# Altium schematic symbol library Orion Sleep - Control Board - Rev 2.SCHLIB: 156 symbols (part 1 of 3)
Pins are listed as number, name and electrical type; pins without a type are passive.

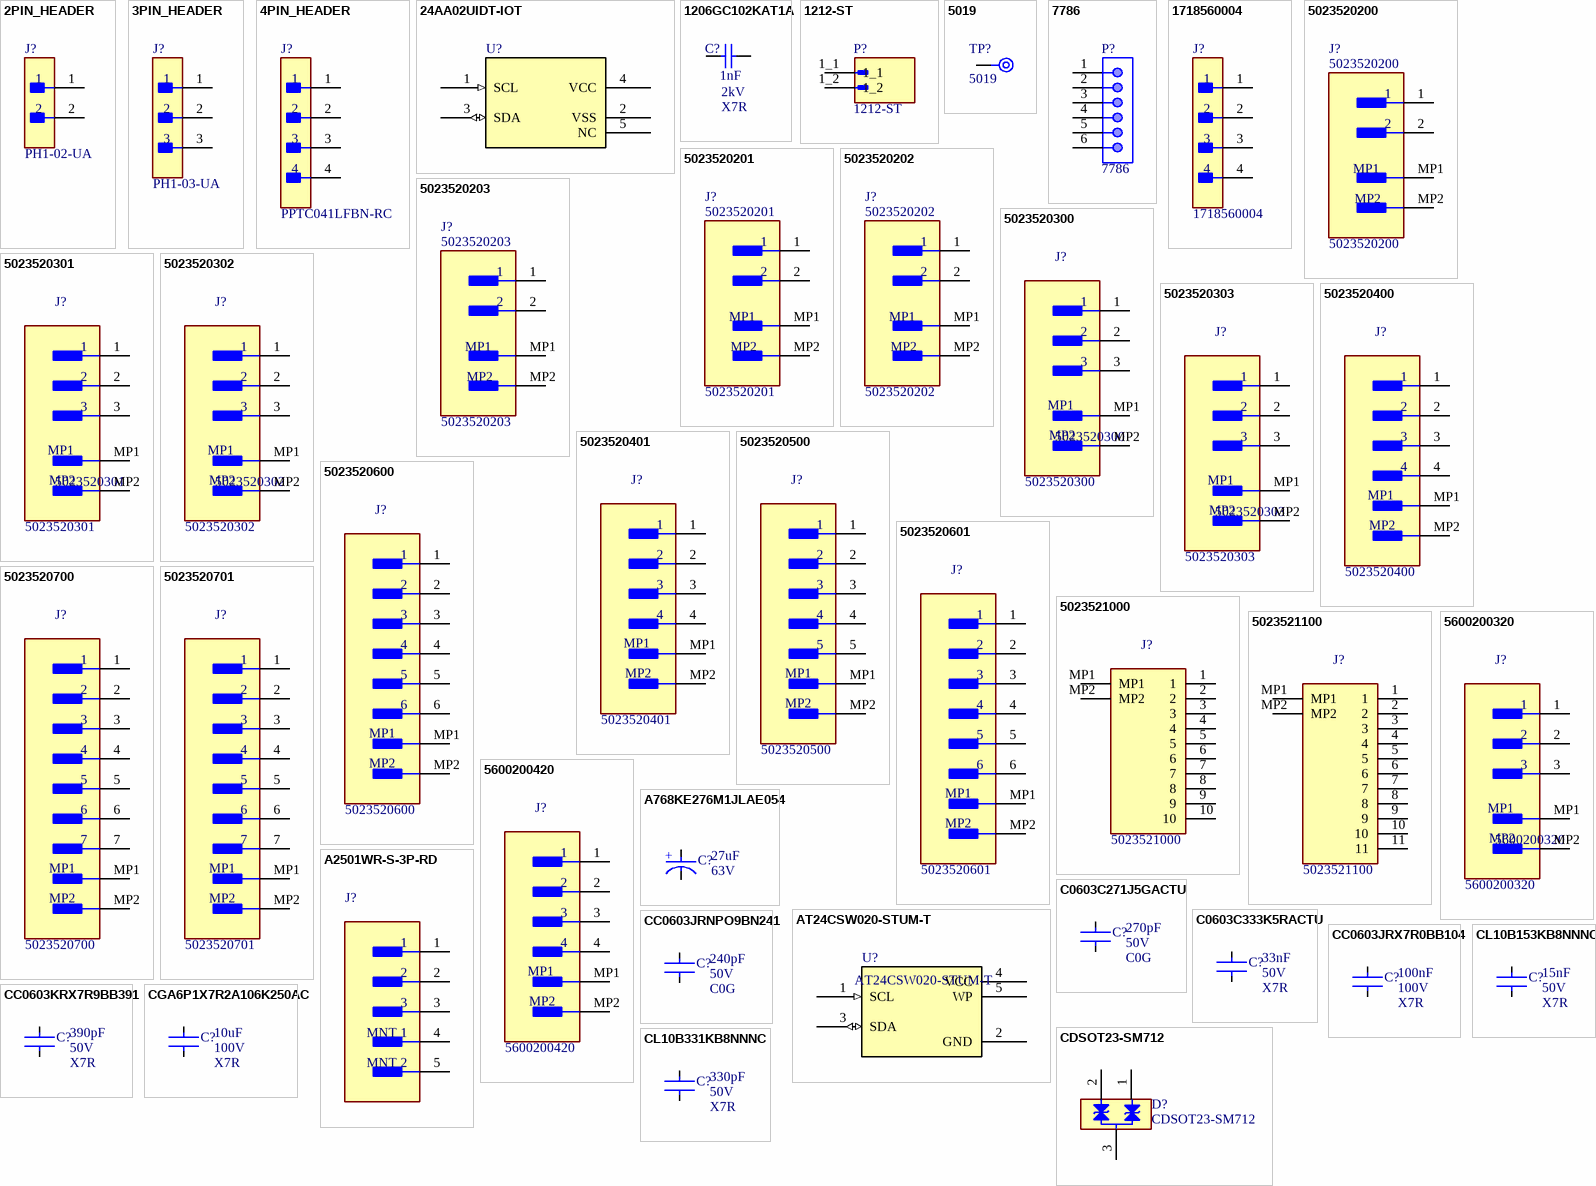
[diagram p0: symbols 2PIN_HEADER to CL10B331KB8NNNC]

## 2PIN_HEADER
designator J?  Manufacturer Part Number 1: PH1-02-UA
CONN HEADER VERT 2POS 2.54MM; Manufacturer 1: Adam Tech; Supplier 1: Digikey; Supplier Part Number 1: 2057-PH1-02-UA-ND
footprint CONN_PH1-02-UA_ADM (CONN HEADER VERT 2POS 2.54MM)
pins: 1, 2

## 3PIN_HEADER
designator J?  Manufacturer Part Number 1: PH1-03-UA
CONN HEADER VERT 3POS 2.54MM; Manufacturer 1: Adam Tech; Supplier 1: Digikey; Supplier Part Number 1: 2057-PH1-03-UA-ND
footprint CONN_PH1-03-UA_ADM (CONN HEADER VERT 3POS 2.54MM)
pins: 1, 2, 3

## 4PIN_HEADER
designator J?  Manufacturer Part Number 1: PPTC041LFBN-RC
CONN HDR 4POS 0.1 TIN PCB 2.54MM FEMALE; Manufacturer 1: Sullins Connector Solutions; Supplier 1: Digikey; Supplier Part Number 1: S7002-ND
footprint SULLINS_PPTC041LFBN-RC
pins: 1, 2, 3, 4

## 24AA02UIDT-IOT
designator U?
IC EEPROM 2KBIT I2C SOT23-5; Manufacturer 1: Microchip Technology; Manufacturer Part Number 1: 24AA02UIDT-I/OT; Supplier 1: Digikey; Supplier Part Number 1: 24AA02UIDT-I/OTCT-ND
footprint SOT-23-5_MC_MCH (5-Lead Plastic Small Outline Transistor (OT) [SOT-23] MICROCHIP)
pins: 1 SCL (in), 2 VSS (power), 3 SDA (io), 4 VCC (power), 5 NC

## 1206GC102KAT1A
designator C?  value 1nF  Temperature Coefficient: X7R  Voltage: 2kV  (hidden comment: 1206GC102KAT1A)
CAP CER 1000PF 2KV X7R 1206; Manufacturer 1: KYOCERA AVX; Tolerance: 10%; Supplier 1: Digikey; Supplier Part Number 1: 478-2956-1-ND; Manufacturer Part Number 1: 1206GC102KAT1A; Case/Package: 1206
footprint C1206
pins: 1, 2
1 alternate drawing of the same symbol

## 1212-ST
designator P?
0.187" (4.75mm) Quick Connect Male Solder Connector Non-Insulated; Manufacturer 1: Keystone Electronics; Manufacturer Part Number 1: 1212-ST; Supplier 1: Digikey; Supplier Part Number 1: 36-1212-ST-ND; Silkscreen: *
footprint KEYSTONE_1212-ST
pins: 1_1, 1_2

## 5019
designator TP?
PC Test Point, Miniature Phosphor Bronze Silver Plating Surface Mount Mounting Type; Manufacturer 1: Keystone Electronics; Manufacturer Part Number 1: 5019; Supplier 1: Digikey; Supplier Part Number 1: 36-5019CT-ND
footprint KEYSTONE_5019 (PC TEST POINT MINIATURE)
pins: 1 TP

## 7786
designator P?
Terminals 30 AMP SCRW TERMINAL; Manufacturer 1: Keystone Electronics; Supplier 1: Mouser; Supplier Part Number 1: 534-7786; Manufacturer Part Number 1: 7786
footprint 7786
pins: 1, 2, 3, 4, 5, 6

## 1718560004
designator J?
Connector Header Through Hole 4 position 0.100" (2.54mm); Manufacturer 1: Molex; Glow Wire Compliant: Non-compliant; Voltage Rating: 250V; Current Rating: 4A; Number of Circuits: 4; Gender: Male; Orientation: Straight; Packaging: Bulk; RoHS Compliant: Yes; Termination: Through Hole; Contact Plating: Tin; Mount: Through Hole; Number of Rows: 1; Pitch: 2.54mm; Halogen Free: Low Halogen; Number of Contacts: 4; Min Operating Temperature: 0°C; Package Quantity: 12000; Contact Material: Copper Alloy; Max Operating Temperature: 75°C; REACH SVHC: No SVHC; Number of Positions: 4; Manufacturer Part Number 1: 1718560004; Supplier 1: Digikey; Supplier Part Number 1: WM10155-ND; Manufacturer 2: Molex; Manufacturer Part Number 2: 47053-3000; Supplier 2: Digikey; Supplier Part Number 2: WM9797-ND
footprint 1718560004 (CONN HEADER VERT 4POS 2.54MM)
pins: 1, 2, 3, 4

## 5023520200
designator J?
CONN HEADER SMD R/A 2POS 2MM; Manufacturer 1: Molex; Supplier 1: Digikey; Supplier Part Number 1: WM7169CT-ND; Manufacturer Part Number 1: 5023520200
footprint 5023520200
pins: 1, 2, MP1, MP2

## 5023520201
designator J?
CONN HEADER SMD R/A 2POS 2MM; Manufacturer 1: Molex; Supplier 1: Digikey; Supplier Part Number 1: WM16210CT-ND; Manufacturer Part Number 1: 5023520201
footprint 5023520201
pins: 1, 2, MP1, MP2

## 5023520202
designator J?
CONN HEADER SMD R/A 2POS 2MM; Manufacturer 1: Molex; Supplier 1: Digikey; Supplier Part Number 1: 900-5023520202CT-ND; Manufacturer Part Number 1: 5023520202
footprint 5023520202
pins: 1, 2, MP1, MP2

## 5023520203
designator J?
CONN HEADER SMD R/A 2POS 2MM; Manufacturer 1: Molex; Supplier 1: Digikey; Supplier Part Number 1: 900-5023520203CT-ND; Manufacturer Part Number 1: 5023520203
footprint 5023520203
pins: 1, 2, MP1, MP2

## 5023520300
designator J?
CONN HEADER SMD R/A 3POS 2MM; Manufacturer 1: Molex; Supplier Part Number 1: WM10858CT-ND; Supplier 1: Digikey; Manufacturer Part Number 1: 5023520300
footprint 5023520300
pins: 1, 2, 3, MP1, MP2 MNT 2

## 5023520301
designator J?
CONN HEADER SMD R/A 3POS 2MM; Manufacturer 1: Molex; Supplier Part Number 1: WM20789CT-ND; Supplier 1: Digikey; Manufacturer Part Number 1: 5023520301
footprint 5023520301
pins: 1, 2, 3, MP1, MP2 MNT 2

## 5023520302
designator J?
CONN HEADER SMD R/A 3POS 2MM; Manufacturer 1: Molex; Supplier Part Number 1: 2266-5023520302-23-ND; Supplier 1: Digikey; Manufacturer Part Number 1: 5023520302
footprint 5023520302
pins: 1, 2, 3, MP1, MP2 MNT 2

## 5023520303
designator J?
CONN HEADER SMD R/A 3POS 2MM; Manufacturer 1: Molex; Supplier Part Number 1: 5023520303-ND; Supplier 1: Digikey; Manufacturer Part Number 1: 5023520303
footprint 5023520303
pins: 1, 2, 3, MP1, MP2 MNT 2

## 5023520400
designator J?
CONN HEADER SMD R/A 4POS 2MM; Manufacturer 1: Molex; Supplier Part Number 1: WM7171CT-ND; Supplier 1: Digikey; Manufacturer Part Number 1: 5023520400
footprint 5023520400 (CONN HEADER SMD R/A 4POS 2MM)
pins: 1, 2, 3, 4, MP1, MP2 MNT 2

## 5023520401
designator J?
CONN HEADER SMD R/A 4POS 2MM; Manufacturer 1: Molex; Supplier Part Number 1: WM24244CT-ND; Supplier 1: Digikey; Manufacturer Part Number 1: 5023520401
footprint 5023520401 (CONN HEADER SMD R/A 4POS 2MM)
pins: 1, 2, 3, 4, MP1, MP2 MNT 2

## 5023520500
designator J?
CONN HEADER SMD R/A 5POS 2MM; Manufacturer 1: Molex; Supplier Part Number 1: WM14453CT-ND; Supplier 1: Digikey; Manufacturer Part Number 1: 5023520500
footprint 5023520500
pins: 1, 2, 3, 4, 5, MP1, MP2 MNT 2

## 5023520600
designator J?
CONN HEADER SMD R/A 6POS 2MM; Manufacturer 1: Molex; Supplier Part Number 1: WM7173CT-ND; Supplier 1: Digikey; Manufacturer Part Number 1: 5023520600
footprint 5023520600
pins: 1, 2, 3, 4, 5, 6, MP1, MP2 MNT 2

## 5023520601
designator J?
CONN HEADER SMD R/A 6POS 2MM; Manufacturer 1: Molex; Supplier Part Number 1: WM20793CT-ND; Supplier 1: Digikey; Manufacturer Part Number 1: 5023520601
footprint 5023520601
pins: 1, 2, 3, 4, 5, 6, MP1, MP2 MNT 2

## 5023520700
designator J?
CONN HEADER SMD R/A 7POS 2MM; Manufacturer 1: Molex; Supplier Part Number 1: WM14455CT-ND; Supplier 1: Digikey; Manufacturer Part Number 1: 5023520700
footprint 5023520700
pins: 1, 2, 3, 4, 5, 6, 7, MP1, MP2 MNT 2

## 5023520701
designator J?
CONN HEADER SMD R/A 7POS 2MM; Manufacturer 1: Molex; Supplier Part Number 1: WM24246CT-ND; Supplier 1: Digikey; Manufacturer Part Number 1: 5023520701
footprint 5023520701
pins: 1, 2, 3, 4, 5, 6, 7, MP1, MP2 MNT 2

## 5023521000
designator J?
CONN HEADER SMD R/A 10POS 2MM; Manufacturer 1: Molex; Supplier Part Number 1: WM17093CT-ND; Supplier 1: Digikey; Manufacturer Part Number 1: 5023521000
footprint 5023521000
pins: 1, 2, 3, 4, 5, 6, 7, 8, 9, 10, MP1, MP2

## 5023521100
designator J?
CONN HEADER SMD R/A 11POS 2MM; Manufacturer 1: Molex; Supplier Part Number 1: WM24250CT-ND; Supplier 1: Digikey; Manufacturer Part Number 1: 5023521100
footprint 5023521100 (CONN HEADER SMD R/A 11POS 2MM)
pins: 1, 2, 3, 4, 5, 6, 7, 8, 9, 10, 11, MP1, MP2

## 5600200320
designator J?
CONN HEADER SMD 3POS 2MM; Manufacturer 1: Molex; Supplier Part Number 1: WM10863CT-ND; Supplier 1: Digikey; Manufacturer Part Number 1: 5600200320
footprint 5600200320 (CONN HEADER SMD 3POS 2MM)
pins: 1, 2, 3, MP1, MP2 MNT 2

## 5600200420
designator J?
CONN HEADER SMD 4POS 2MM; Manufacturer 1: Molex; Supplier Part Number 1: WM10864CT-ND; Supplier 1: Digikey; Manufacturer Part Number 1: 5600200420
footprint 5600200420 (CONN HEADER SMD 4POS 2MM)
pins: 1, 2, 3, 4, MP1, MP2 MNT 2

## A768KE276M1JLAE054
designator C?  value 27uF  Voltage Rating: 63V  (hidden comment: A768KE276M1JLAE054)
CAP ALUM POLY 27UF 20% 63V SMD; Manufacturer 1: KEMET; Tolerance: 20%; Case/Package: Radial; Manufacturer Part Number 1: A768KE276M1JLAE054; Supplier 1: Digikey; Supplier Part Number 1: 399-A768KE276M1JLAE054CT-ND
footprint A768KE276M1JLAE054 (Radial, Can - SMD  0.315" Dia (8.00mm) 0.327" L x 0.327" W (8.30mm x 8.30mm))
pins: 1 C, 2 A
text: +

## A2501WR-S-3P-RD
designator J?
Connector Header Surface Mount, Right Angle 3 position 0.098" (2.50mm); Manufacturer 1: CJT; Manufacturer Part Number 1: A2501WR-S-3P-RD; Number of Positions: 3; Max Current Rating: 3A; Pitch: 2.5mm; Gender: Male; Max Voltage Rating (AC): 250V; Contact Resistance: 20mR; Connector Type: Male Pin; Max Operating Temperature: 85°C; Orientation: Right Angle; Series: XH; Number of Rows: 1; Housing Material: Polyamide; Packaging: Tape and Reel; Number of Contacts: 3; REACH SVHC: No SVHC; Mount: Surface Mount; Contact Material: Copper Alloy; Package Quantity: 1; Min Operating Temperature: -25°C; Termination: Solder; Fastening Type: Detent; Lead Free: Lead Free; Length: 12.5mm; Depth: 10mm; Contact Plating: Tin; Contact Type: Male Pin; Manufacturer 2: JST Sales America Inc.; Manufacturer Part Number 2: S3B-XH-SM4-TB(LF)(SN); Supplier 2: Digikey; Supplier Part Number 2: 455-S3B-XH-SM4-TBCT-ND; Supplier 1: CJT; Supplier Part Number 1: A2501WR-S-3P-RD
footprint A2501WR-S-3P-RD_RED (CONN HEADER SMD R/A 3POS 2.5MM)
pins: 1, 2, 3, 4 MNT 1, 5 MNT 2

## AT24CSW020-STUM-T
designator U?
IC EEPROM 2KBIT I2C TSOT23-5; Manufacturer 1: Microchip Technology; Manufacturer Part Number 1: AT24CSW020-STUM-T; Supplier 1: Digikey; Supplier Part Number 1: 150-AT24CSW020-STUM-TCT-ND
footprint SOT-23-5_MC_MCH (5-Lead Plastic Small Outline Transistor (OT) [SOT-23] MICROCHIP)
pins: 1 SCL (in), 2 GND (power), 3 SDA (io), 4 VCC (power), 5 WP

## C0603C271J5GACTU
designator C?  value 270pF  Dielectric: C0G  Voltage Rating: 50V  (hidden comment: C0603C271J5GACTU)
CAP CER 270PF 50V C0G/NP0 0603; Manufacturer 1: KEMET; Tolerance: 5%; Case/Package: 0603; Manufacturer Part Number 1: C0603C271J5GACTU; Supplier 1: Digikey; Supplier Part Number 1: 399-C0603C271J5GACTUCT-ND
footprint C0603 (Chip Capacitor, 2-Leads, Body 1.60x0.80mm)
pins: 1, 2

## C0603C333K5RACTU
designator C?  value 33nF  Dielectric: X7R  Voltage Rating: 50V  (hidden comment: C0603C333K5RACTU)
CAP CER 0.033UF 50V X7R 0603; Manufacturer 1: KEMET; Tolerance: 10%; Case/Package: 0603; Manufacturer Part Number 1: C0603C333K5RACTU; Supplier 1: Digikey; Supplier Part Number 1: 399-C0603C333K5RACTUCT-ND
footprint C0603 (Chip Capacitor, 2-Leads, Body 1.60x0.80mm)
pins: 1, 2

## CC0603JRNPO9BN241
designator C?  value 240pF  Dielectric: C0G  Voltage Rating: 50V  (hidden comment: CC0603JRNPO9BN241)
CAP CER 240PF 50V C0G/NPO 0603; Manufacturer 1: YAGEO; Tolerance: 5%; Case/Package: 0603; Manufacturer Part Number 1: CC0603JRNPO9BN241; Supplier 1: Digikey; Supplier Part Number 1: 311-3356-1-ND
footprint C0603 (Chip Capacitor, 2-Leads, Body 1.60x0.80mm)
pins: 1, 2

## CC0603JRX7R0BB104
designator C?  value 100nF  Dielectric: X7R  Voltage Rating: 100V  (hidden comment: CC0603JRX7R0BB104)
CAP CER 0.1UF 100V X7R 0603; Manufacturer 1: YAGEO; Tolerance: 5%; Case/Package: 0603; Manufacturer Part Number 1: CC0603JRX7R0BB104; Supplier 1: Digikey; Supplier Part Number 1: 13-CC0603JRX7R0BB104CT-ND
footprint C0603 (Chip Capacitor, 2-Leads, Body 1.60x0.80mm)
pins: 1, 2

## CC0603KRX7R9BB391
designator C?  value 390pF  Dielectric: X7R  Voltage Rating: 50V  (hidden comment: CC0603KRX7R9BB391)
CAP CER 390PF 50V X7R 0603; Manufacturer 1: YAGEO; Tolerance: 10%; Case/Package: 0603; Manufacturer Part Number 1: CC0603KRX7R9BB391; Supplier 1: Digikey; Supplier Part Number 1: 311-1187-1-ND
footprint C0603 (Chip Capacitor, 2-Leads, Body 1.60x0.80mm)
pins: 1, 2

## CDSOT23-SM712
designator D?
TVS DIODE 12VWM 7VWM SOT233; Manufacturer 1: Bourns Inc.; Manufacturer Part Number 1: CDSOT23-SM712; Supplier 1: Digikey; Supplier Part Number 1: CDSOT23-SM712CT-ND
footprint SOT23F
pins: 1 K_1, 2 K_2, 3 COMMON

## CGA6P1X7R2A106K250AC
designator C?  value 10uF  Dielectric: X7R  Voltage Rating: 100V  (hidden comment: CGA6P1X7R2A106K250AC)
10 µF ±10% 100V Ceramic Capacitor X7R 1210 (3225 Metric); Manufacturer 1: TDK; Tolerance: 10%; Case/Package: 1210; Manufacturer Part Number 1: CGA6P1X7R2A106K250AC; Supplier 1: Digikey; Supplier Part Number 1: 445-CGA6P1X7R2A106K250ACCT-ND
footprint C1210 (Ceramic Chip Capacitor; Body 3.2 x 2.5 mm (LxW typ))
pins: 1, 2

## CL10B153KB8NNNC
designator C?  value 15nF  Dielectric: X7R  Voltage Rating: 50V  (hidden comment: CL10B153KB8NNNC)
CAP CER 0.015UF 50V X7R 0603; Manufacturer 1: Samsung Electro-Mechanics; Tolerance: 10%; Case/Package: 0603; Manufacturer Part Number 1: CL10B153KB8NNNC; Supplier 1: Digikey; Supplier Part Number 1: 1276-1277-1-ND
footprint C0603 (Chip Capacitor, 2-Leads, Body 1.60x0.80mm)
pins: 1, 2

## CL10B331KB8NNNC
designator C?  value 330pF  Dielectric: X7R  Voltage Rating: 50V  (hidden comment: CL10B331KB8NNNC)
CAP CER 330PF 50V X7R 0603; Manufacturer 1: Samsung Electro-Mechanics; Tolerance: 10%; Case/Package: 0603; Manufacturer Part Number 1: CL10B331KB8NNNC; Supplier 1: Digikey; Supplier Part Number 1: 1276-1787-1-ND
footprint C0603 (Chip Capacitor, 2-Leads, Body 1.60x0.80mm)
pins: 1, 2

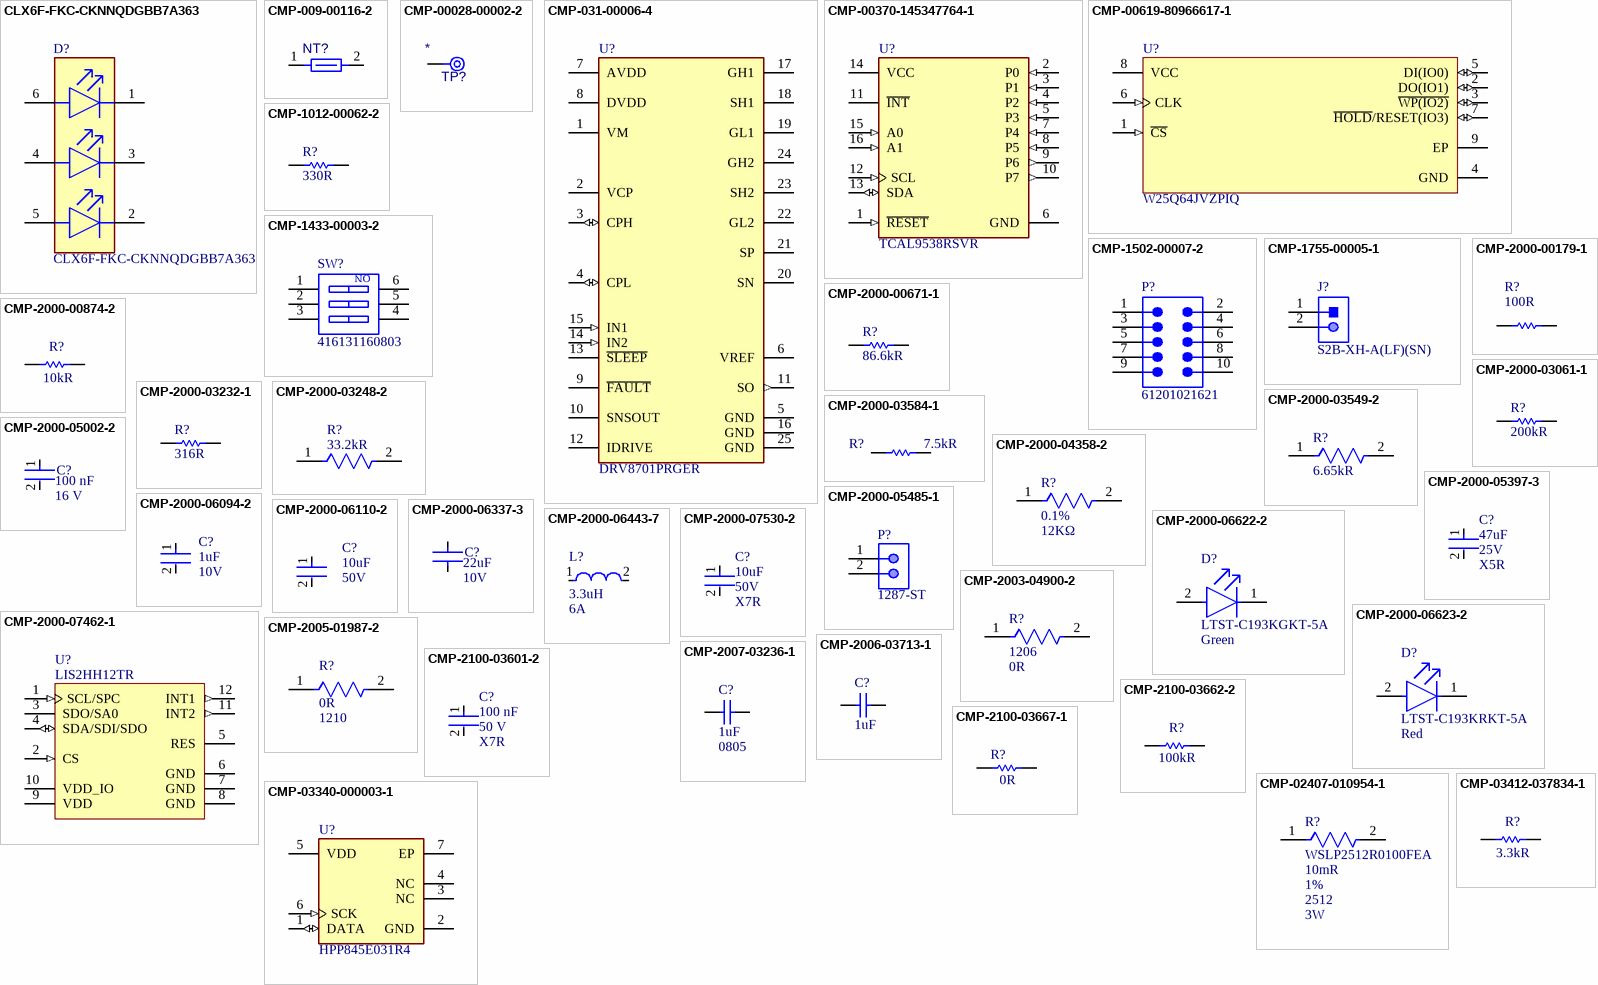
[diagram p1: symbols CLX6F-FKC-CKNNQDGBB7A363 to CMP-03412-037834-1]

## CLX6F-FKC-CKNNQDGBB7A363
designator D?
LED RGB 6PLCC SMD; Manufacturer 1: Cree LED; Lens Style: Flat; Temperature Coefficient: 25ppm/°C; Test Current: 10mA; Color: Blue; Max Power Dissipation: 400mW; Dominant Wavelength: 470nm; Tolerance: 0.1%; Resistance: 49.9R; Forward Voltage: 3V; Luminous Intensity: 240mcd; Case Code (Imperial): 1206; Features: Moisture Resistant; RoHS Compliant: Yes; Case Code (Metric): 3216; Packaging: Cut Tape; Max Operating Temperature: 155°C; Case/Package: SMD/SMT; Mount: Surface Mount; Height: 2.9mm; Resistor Type: Thin Film; Min Operating Temperature: -55°C; Length: 3.4mm; Number of Terminations: 2; Width: 3.4mm; Manufacturer Part Number 1: CLX6F-FKC-CKNNQDGBB7A363; Supplier 1: Digikey; Supplier Part Number 1: CLX6F-FKC-CKNNQDGBB7A363CT-ND; Manufacturer 2: NATIONSTAR; Manufacturer Part Number 2: RS-3535MWAR; Supplier 2: LCSC; Supplier Part Number 2: C110402
footprint FP-CLX6F-FKC-CKNNQDGBB7A3-IPC_C
pins: 1 BLUE C, 2 GREEN C, 3 RED C, 4 RED A, 5 GREEN A, 6 BLUE A

## CMP-009-00116-2
designator NT?, comment Net Tie 10x8mil  (value not drawn)  (net tie, no BOM)
Min Operating Temperature: -55°C; Pins: 2; Max Operating Temperature: 155°C; Component Type: Resistors; Manufacturer 1: *; Manufacturer Part Number 1: *; Supplier 1: *; Supplier Part Number 1: *
footprint New footprint 1
pins: 1, 2

## CMP-00028-00002-2
designator TP?  (no BOM)
Pad testpoint
footprint TP1MM (Testpoint, round, d=1mm)
pins: 1 TP

## CMP-031-00006-4
designator U?, comment DRV8701PRGER
Motor Driver Power MOSFET PWM 24-VQFN (4x4); Manufacturer 1: Texas Instruments; Max Operating Temperature: 125°C; Packaging: Tape and Reel; Lead Free: Lead Free; Component Type: Standard; Mount: Surface Mount; Min Operating Temperature: -40°C; Design Item ID: CMP-04915-000037-1; Interface: PWM; RoHS Compliant: Yes; Source: Components - 04.06.25 - 15.55.SchLib; Case/Package: VQFN; Pins: 25; Component Type: Integrated Circuits; Manufacturer Part Number 1: DRV8701PRGER; Supplier 1: Digikey; Supplier Part Number 1: 296-46293-1-ND
footprint FP-RGE0024F-IPC_B
footprint FP-RGE0024F-IPC_A
footprint FP-RGE0024F-IPC_C
footprint FP-RGE0024F-MFG
pins: 1 VM, 2 VCP, 3 CPH (io), 4 CPL (io), 5 GND (power), 6 VREF, 7 AVDD (power), 8 DVDD (power), 9 ~{FAULT}, 10 SNSOUT, 11 SO (out), 12 IDRIVE, 13 ~{SLEEP}, 14 IN2 (in), 15 IN1 (in), 16 GND (power), 17 GH1, 18 SH1, 19 GL1, 20 SN, 21 SP, 22 GL2, 23 SH2, 24 GH2, 25 GND (power)

## CMP-00370-145347764-1
designator U?, comment TCAL9538RSVR
I/O Expander 8 I2C, SMBus 1 MHz 16-UQFN (2.6x1.8); NexarPartId: 145347764; Manufacturer Lifecycle Status: ACTIVE; Manufacturer 1: Texas Instruments; Height: 550µm; Lifecycle Status: Production; Thickness: 500µm; Length: 2.6mm; Width: 1.8mm; Number of Pins: 16; Manufacturer Part Number 1: TCAL9538RSVR; Supplier 1: Digikey; Supplier Part Number 1: 296-TCAL9538RSVRCT-ND
footprint FP-RSV0016A-MFG
pins: 1 ~{RESET} (in), 2 P0 (in), 3 P1 (in), 4 P2 (in), 5 P3 (in), 6 GND (power), 7 P4 (in), 8 P5 (in), 9 P6 (out), 10 P7 (out), 11 ~{INT} (oc), 12 SCL (in), 13 SDA (io), 14 VCC (power), 15 A0 (in), 16 A1 (in)

## CMP-00619-80966617-1
designator U?, comment W25Q64JVZPIQ
FLASH - NOR Memory IC 64Mbit SPI - Quad I/O 133 MHz 6 ns 8-WSON (6x5); NexarPartId: 80966617; Manufacturer 1: Winbond Electronics; Memory Size: 8MB; Max Supply Voltage: 3.6V; Min Supply Voltage: 2.7V; Frequency: 133MHz; Access Time: 6ns; Memory Type: FLASH; Height: 800µm; Max Operating Temperature: 85°C; Interface: SPI; Ambient Temperature Range High: 85°C; Min Operating Temperature: -40°C; Schedule B: 8542320070, 8542320070; RoHS: Non-Compliant; Manufacturer Part Number 1: W25Q64JVZPIQ; Supplier 1: Digikey; Supplier Part Number 1: 256-W25Q64JVZPIQ-ND
footprint FP-ZP-MFG
footprint FP-ZP-IPC_A
footprint FP-ZP-IPC_B
footprint FP-ZP-IPC_C
pins: 1 ~{CS} (in), 2 DO(IO1) (io), 3 ~{WP(IO2)} (io), 4 GND (power), 5 DI(IO0) (io), 6 CLK (in), 7 ~{HOLD}/RESET(IO3) (io), 8 VCC (power), 9 EP (power)

## CMP-1012-00062-2
designator R?, comment value 330R  (hidden comment: CRCW0603330RJNEA)
330 Ohms ±5% 0.1W, 1/10W Chip Resistor 0603 (1608 Metric) Automotive AEC-Q200 Thick Film; Manufacturer: Vishay Dale; Power: 100mW; Working Voltage: 75V; Temperature Coefficient (ppm/Cel): 200; Rated Temperature: 70°C; Package Height: 0.45mm; Package Length: 1.55mm; Package Width: 0.85mm; Part Number: CRCW0603330RJNEA; Supplier: Mouser; Supplier Part Number: 71-CRCW0603J-330-E3; Manufacturer Part Number: CRCW0603330RJNEA; RoHS: Yes; Category: Chip SMD Resistors; Stock: 235052; Pricing: 1=0.1, 10=0.016, 50=0.016, 100=0.012, 1000=0.008, 10000=0.003 (USD); Mounting Technology: Surface Mount; Pins: 2; Case/Package: 0603; Terminal Finish: Nickel; Package Shape: Rectangular; Min Operating Temperature: -55°C; Max Operating Temperature: 155°C; Tolerance: 5%; JESD-609 Code: e3; Resistor Type: FIXED RESISTOR; Construction: Chip; Packaging: Tape and Reel; Technology: METAL GLAZE/THICK FILM; Termination: Wraparound; Reference Standard: AEC-Q200; Reach SVHC Compliant: Yes; RoHS Compliant: Yes; ComponentLink1URL: https://datasheet.ciiva.com:443/pdfs/VipMasterIC/IC/VISH/VISH-S-A0007266705/VISH-S-A0007266705-1.pdf?src-supplier=IHS+Markit; ComponentLink1Description: https://datasheet.ciiva.com:443/pdfs/VipMasterIC/IC/VISH/VISH-S-A0007266705/VISH-S-A0007266705-1.pdf?src-supplier=IHS+Markit; ComponentLink2URL: https://datasheet.ciiva.com/3257/dcrcwe3-3257461.pdf?src-supplier=Avnet; ComponentLink2Description: https://datasheet.ciiva.com/3257/dcrcwe3-3257461.pdf?src-supplier=Avnet; ComponentLink3URL: https://datasheet.ciiva.com/3257/dcrcwe3-3257462.pdf?src-supplier=Avnet; ComponentLink3Description: https://datasheet.ciiva.com/3257/dcrcwe3-3257462.pdf?src-supplier=Avnet; ComponentLink4URL: https://datasheet.ciiva.com/2461/dcrcwe3-2461983.pdf?src-supplier=Digikey; ComponentLink4Description: https://datasheet.ciiva.com/2461/dcrcwe3-2461983.pdf?src-supplier=Digikey; ComponentLink5URL: https://datasheet.ciiva.com/2461/dcrcwe3-2461984.pdf?src-supplier=Digikey; ComponentLink5Description: https://datasheet.ciiva.com/2461/dcrcwe3-2461984.pdf?src-supplier=Digikey; ComponentLink6URL: https://datasheet.ciiva.com/2461/dcrcwe3-2461985.pdf?src-supplier=Digikey; ComponentLink6Description: https://datasheet.ciiva.com/2461/dcrcwe3-2461985.pdf?src-supplier=Digikey; ComponentLink7URL: https://datasheet.ciiva.com/22700/1533075-22700363.pdf?src-supplier=Element14; ComponentLink7Description: https://datasheet.ciiva.com/22700/1533075-22700363.pdf?src-supplier=Element14; ComponentLink8URL: https://datasheet.ciiva.com/5551/dcrcwe3-109170-5551613.pdf?src-supplier=Mouser; ComponentLink8Description: https://datasheet.ciiva.com/5551/dcrcwe3-109170-5551613.pdf?src-supplier=Mouser; ComponentLink9URL: https://datasheet.ciiva.com/46395/1807946-46395150.pdf?src-supplier=Element14; ComponentLink9Description: https://datasheet.ciiva.com/46395/1807946-46395150.pdf?src-supplier=Element14; ComponentLink10URL: https://datasheet.ciiva.com/16779/70201119-16779084.pdf?src-supplier=Allied+Electronics; ComponentLink10Description: https://datasheet.ciiva.com/16779/70201119-16779084.pdf?src-supplier=Allied+Electronics; ComponentLink11URL: https://datasheet.ciiva.com/16784/70201119-16784085.pdf?src-supplier=Allied+Electronics; ComponentLink11Description: https://datasheet.ciiva.com/16784/70201119-16784085.pdf?src-supplier=Allied+Electronics; Manufacturer 1: Vishay Dale; Manufacturer Part Number 1: CRCW0603330RJNEA; Supplier 1: Digikey; Supplier Part Number 1: 541-330GCT-ND
footprint R0603 (Chip Resistor; Body 1.6 x 0.9 mm (LxW typ))
pins: 1, 2
1 alternate drawing of the same symbol

## CMP-1433-00003-2
designator SW?, comment 416131160803
Dip Switch SPST 3 Position Surface Mount Slide (Standard) Actuator 25mA 24VDC; NexarPartId: 22584985; Manufacturer 1: Würth Elektronik; Mechanical Life: 2kcycles; Electrical Life: 1kcycles; Body Material: Polyphenylene; Insulation Resistance: 100MΩ; Number of Positions: 3; Pitch: 1.27mm; Voltage Rating: 24V; Washable: Yes; Mount: Surface Mount; Max Operating Temperature: 85°C; Number of Pins: 3; Min Operating Temperature: -40°C; Termination: Gull Wing; Throw Configuration: SPST; Length: 4.98mm; Current Rating: 25mA; Voltage Rating (DC): 24V; Contact Plating: Gold; RoHS: Compliant; Packaging: Tape and Reel; Manufacturer Part Number 1: 416131160803; Supplier 1: Digikey; Supplier Part Number 1: 732-416131160803CT-ND
footprint 416131160803 (Dip Switch, 0.025A, 24Vdc, 3 Pos, Smd Rohs Compliant: Yes)
pins: 1, 2, 3, 4, 5, 6
text: ON

## CMP-1502-00007-2
designator P?, comment 61201021621
Connector Header Through Hole 10 position 0.100" (2.54mm); NexarPartId: 8917783; Manufacturer 1: Würth Elektronik; Number of Contacts: 10; Voltage Rating (DC): 250V; Insulation Resistance: 1GΩ; Current Rating: 3A; Contact Resistance: 20mΩ; Connector Type: Male Pin; Gender: Male; Flammability Rating: UL94 V-0; Termination: Solder; Width: 20.36mm; Length: 20.36mm; Housing Material: PBT; Operating Supply Voltage: 250V; Min Operating Temperature: -40°C; Lead Free: Lead Free; Insulation Material: PBT; Orientation: Vertical; Row Spacing: 2.54mm; RoHS: Compliant; Voltage Rating: 250V; Number of Pins: 10; Height: 8.85mm; REACH SVHC: Unknown; Contact Material: Copper; Contact Gender: Male; Color: Black; Mount: Through Hole; Contact Plating: Gold; Lead Pitch: 2.54mm; Number of Positions: 10; Pitch: 2.54mm; Max Operating Temperature: 105°C; Number of Rows: 2; Manufacturer Part Number 1: 61201021621; Supplier 1: Digikey; Supplier Part Number 1: 732-2094-ND
footprint 61201021621 (WR-BHD Straight Male, Box Header, Through Hole, 2 Rows, 10 Contacts, 2.54mm Pitch)
pins: 1, 2, 3, 4, 5, 6, 7, 8, 9, 10

## CMP-1755-00005-1
designator J?, comment S2B-XH-A(LF)(SN)
Male Header, Pitch 2.5 mm, 1 x 2 Position, Height 6.1 mm, Tail Length 3.4 mm, -25 to 85 degC, RoHS, Bulk; Manufacturer 1: JST Sales America Inc.; Type (Capacitors): X7R; Voltage Rating (DC): 100 V; Tolerance: 10%; Capacitance: 1 nF; Case\Package: Radial; Min Operating Temperature: -55 degC; Mount: Through Hole; Package Quantity: 500; PackageReference: S2B-XH-A(LF)(SN); ComponentLink1Description: Manufacturer URL; Max Operating Temperature: 125 degC; ComponentLink2Description: Datasheet; RoHSCompliant: true; PackageDescription: Male Header, Pitch 2.5 mm, 1 x 2 Position, Height 6.1 mm, Tail Length 3.4 mm; REACH SVHC: No SVHC; Packaging: Bulk; Width: 3.81 mm; Length: 5.33 mm; Height: 2.54 mm; Pins: 2; Radiation Hardening: No; ComponentLink1URL: http://www.jst.com/home2.html; Lead Pitch: 2.54 mm; DatasheetVersion: May-16; Voltage Rating: 100 V; ComponentLink2URL: http://www.jst-mfg.com/product/pdf/eng/eXH.pdf; Manufacturer Part Number 1: S2B-XH-A(LF)(SN); Supplier 1: Digikey; Supplier Part Number 1: 455-S2B-XH-A-ND
footprint JST-S2B-XH-A(LF)(SN)_V (Header, 2-Leads, Body 7.4x11.5mm, Pitch 2.5mm)
pins: 1, 2

## CMP-2000-00179-1
designator R?, comment value 100R  (hidden comment: ERJ-3EKF1000V)
100 Ohms ±1% 0.1W, 1/10W Chip Resistor 0603 (1608 Metric) Automotive AEC-Q200 Thick Film; Manufacturer: Panasonic; Manufacturer 1: Panasonic Electronic Components; Power: 100mW; Rated Temperature: 70°C; Working Voltage: 75V; Temperature Coefficient (ppm/Cel): 100; Package Height: 0.45mm; Package Length: 1.6mm; Package Width: 0.8mm; Part Number: ERJ-3EKF1000V; Supplier: Mouser; Supplier Part Number: 667-ERJ-3EKF1000V; Manufacturer Part Number: ERJ-3EKF1000V; RoHS: Yes; Category: Chip SMD Resistors; Stock: 67501; Pricing: 1=0.1, 10=0.03, 50=0.03, 100=0.017, 1000=0.009, 10000=0.006 (USD); Mounting Technology: Surface Mount; Pins: 2; Package Shape: Rectangular; Case/Package: 0603; Terminal Finish: Nickel; Min Operating Temperature: -55°C; Max Operating Temperature: 155°C; Tolerance: 1%; JESD-609 Code: e3; Resistor Type: FIXED RESISTOR; Construction: Rectangular; Packaging: Tape and Reel; Technology: METAL GLAZE/THICK FILM; Termination: Wraparound; Reference Standard: AEC-Q200; Reach SVHC Compliant: Yes; RoHS Compliant: Yes; ComponentLink1URL: https://datasheet.ciiva.com:443/pdfs/VipMasterIC/IC/PANA/PANA-S-A0009889626/PANA-S-A0009889626-1.pdf?src-supplier=IHS+Markit; ComponentLink1Description: https://datasheet.ciiva.com:443/pdfs/VipMasterIC/IC/PANA/PANA-S-A0009889626/PANA-S-A0009889626-1.pdf?src-supplier=IHS+Markit; ComponentLink2URL: https://datasheet.ciiva.com/34303/1987450-34303565.pdf?src-supplier=Jameco; ComponentLink2Description: https://datasheet.ciiva.com/34303/1987450-34303565.pdf?src-supplier=Jameco; ComponentLink3URL: https://datasheet.ciiva.com/46372/1678782-46372726.pdf?src-supplier=Element14; ComponentLink3Description: https://datasheet.ciiva.com/46372/1678782-46372726.pdf?src-supplier=Element14; ComponentLink4URL: https://datasheet.ciiva.com/46372/1678782-46372727.pdf?src-supplier=Element14; ComponentLink4Description: https://datasheet.ciiva.com/46372/1678782-46372727.pdf?src-supplier=Element14; ComponentLink5URL: https://datasheet.ciiva.com/24159/aoa0000ce2-24159753.pdf?src-supplier=Mouser; ComponentLink5Description: https://datasheet.ciiva.com/24159/aoa0000ce2-24159753.pdf?src-supplier=Mouser; ComponentLink6URL: https://datasheet.ciiva.com/7830/aoa0000ce2-7830728.pdf?src-supplier=Element14; ComponentLink6Description: https://datasheet.ciiva.com/7830/aoa0000ce2-7830728.pdf?src-supplier=Element14; ComponentLink7URL: https://datasheet.ciiva.com/48530/aoa0000ce2-48530986.pdf?src-supplier=Avnet; ComponentLink7Description: https://datasheet.ciiva.com/48530/aoa0000ce2-48530986.pdf?src-supplier=Avnet; ComponentLink8URL: https://datasheet.ciiva.com/9186/aoa0000ce2-9186725.pdf?src-supplier=Avnet; ComponentLink8Description: https://datasheet.ciiva.com/9186/aoa0000ce2-9186725.pdf?src-supplier=Avnet; ComponentLink9URL: https://datasheet.ciiva.com/30088/aoa0000ce2-30088649.pdf?src-supplier=Onlinecomponents.com; ComponentLink9Description: https://datasheet.ciiva.com/30088/aoa0000ce2-30088649.pdf?src-supplier=Onlinecomponents.com; ComponentLink10URL: https://datasheet.ciiva.com/22667/1678782-22667887.pdf?src-supplier=Element14; ComponentLink10Description: https://datasheet.ciiva.com/22667/1678782-22667887.pdf?src-supplier=Element14; ComponentLink11URL: https://datasheet.ciiva.com/16762/70260748-16762666.pdf?src-supplier=Allied+Electronics; ComponentLink11Description: https://datasheet.ciiva.com/16762/70260748-16762666.pdf?src-supplier=Allied+Electronics; ComponentLink12URL: https://datasheet.ciiva.com/16765/70260748-16765766.pdf?src-supplier=Allied+Electronics; ComponentLink12Description: https://datasheet.ciiva.com/16765/70260748-16765766.pdf?src-supplier=Allied+Electronics; Manufacturer Part Number 1: ERJ-3EKF1000V; Supplier 1: Digikey; Supplier Part Number 1: P100HCT-ND
footprint R0603 (Chip Resistor; Body 1.6 x 0.9 mm (LxW typ))
pins: 1, 2
1 alternate drawing of the same symbol

## CMP-2000-00671-1
designator R?, comment Resistance: 86.6kR  (hidden comment: ERJ-3EKF8662V)
86.6 kOhms ±1% 0.1W, 1/10W Chip Resistor 0603 (1608 Metric) Automotive AEC-Q200 Thick Film; Manufacturer: Panasonic; Manufacturer 1: Panasonic Electronic Components; Value: 86.6kR; Part Number: ERJ-3EKF8662V; Manufacturer Part Number 1: ERJ-3EKF8662V; Supplier 1: Digikey; Supplier Part Number 1: P86.6KHCT-ND
footprint R0603 (Chip Resistor; Body 1.6 x 0.9 mm (LxW typ))
pins: 1, 2
1 alternate drawing of the same symbol

## CMP-2000-00874-2
designator R?, comment Resistance: 10kR  (hidden comment: ERA-3AEB103V)
10 kOhms ±0.1% 0.1W, 1/10W Chip Resistor 0603 (1608 Metric) Automotive AEC-Q200 Thin Film; Manufacturer 1: Panasonic Electronic Components; Voltage Rating (DC): 75V; Power Rating: 100mW; Temperature Coefficient: 25ppm/°C; Value: 10kR; Radiation Hardening: No; Width: 0.8mm; Depth: 0.8mm; Construction: Rectangular; Case Code (Metric): 1608; Package Quantity: 5000; Length: 1.6mm; Size Code: 0603; Case Code (Imperial): 0603; Termination: SMD/SMT; Contact Plating: Tin; Military Standard: Not; Packaging: Tape and Reel; Max Power Dissipation: 100mW; REACH SVHC: No SVHC; Series: ERA-3A; Voltage Rating: 75V; Lead Free: Lead Free; Technology: METAL FILM; RoHS Compliant: Yes; Max Operating Temperature: 155°C; Resistor Type: Thin Film; Min Operating Temperature: -55°C; Number of Pins: 2; Case/Package: 0603; Tolerance: 0.1%; Height: 0.45mm; Mount: Surface Mount; Number of Terminations: 2; Manufacturer Part Number 1: ERA-3AEB103V; Supplier 1: Digikey; Supplier Part Number 1: P10KDBCT-ND; Resistance Tolerance: 0.1%
footprint R0603 (Chip Resistor; Body 1.6 x 0.9 mm (LxW typ))
pins: 1, 2

## CMP-2000-03061-1
designator R?, comment value 200kR  (hidden comment: CRCW0603200KJNEA)
200 kOhms ±5% 0.1W, 1/10W Chip Resistor 0603 (1608 Metric) Automotive AEC-Q200 Thick Film; Manufacturer: Vishay Dale; Power: 100mW; Working Voltage: 75V; Temperature Coefficient (ppm/Cel): 200; Rated Temperature: 70°C; Package Height: 0.45mm; Package Length: 1.55mm; Package Width: 0.85mm; Part Number: CRCW0603200KJNEA; Supplier: Mouser; Supplier Part Number: 71-CRCW0603J-200K-E3; Manufacturer Part Number: CRCW0603200KJNEA; RoHS: Yes; Category: Chip SMD Resistors; Stock: 167996; Pricing: 1=0.1, 10=0.024, 50=0.024, 100=0.013, 1000=0.007, 10000=0.004 (USD); Mounting Technology: Surface Mount; Pins: 2; Case/Package: 0603; Terminal Finish: Nickel; Package Shape: Rectangular; Min Operating Temperature: -55°C; Max Operating Temperature: 155°C; Tolerance: 5%; JESD-609 Code: e3; Resistor Type: FIXED RESISTOR; Construction: Chip; Packaging: Tape and Reel; Technology: METAL GLAZE/THICK FILM; Termination: Wraparound; Reference Standard: AEC-Q200; Reach SVHC Compliant: Yes; RoHS Compliant: Yes; ComponentLink1URL: https://datasheet.ciiva.com:443/pdfs/VipMasterIC/IC/VISH/VISH-S-A0007266705/VISH-S-A0007266705-1.pdf?src-supplier=IHS+Markit; ComponentLink1Description: https://datasheet.ciiva.com:443/pdfs/VipMasterIC/IC/VISH/VISH-S-A0007266705/VISH-S-A0007266705-1.pdf?src-supplier=IHS+Markit; ComponentLink2URL: https://datasheet.ciiva.com/2462/dcrcwe3-2462208.pdf?src-supplier=Digikey; ComponentLink2Description: https://datasheet.ciiva.com/2462/dcrcwe3-2462208.pdf?src-supplier=Digikey; ComponentLink3URL: https://datasheet.ciiva.com/2462/dcrcwe3-2462209.pdf?src-supplier=Digikey; ComponentLink3Description: https://datasheet.ciiva.com/2462/dcrcwe3-2462209.pdf?src-supplier=Digikey; ComponentLink4URL: https://datasheet.ciiva.com/2462/dcrcwe3-2462210.pdf?src-supplier=Digikey; ComponentLink4Description: https://datasheet.ciiva.com/2462/dcrcwe3-2462210.pdf?src-supplier=Digikey; ComponentLink5URL: https://datasheet.ciiva.com/22870/70201119-22870293.pdf?src-supplier=Allied+Electronics; ComponentLink5Description: https://datasheet.ciiva.com/22870/70201119-22870293.pdf?src-supplier=Allied+Electronics; Manufacturer 1: Vishay Dale; Manufacturer Part Number 1: CRCW0603200KJNEA; Supplier 1: Digikey; Supplier Part Number 1: 541-200KGCT-ND
footprint R0603 (Chip Resistor; Body 1.6 x 0.9 mm (LxW typ))
pins: 1, 2
1 alternate drawing of the same symbol

## CMP-2000-03232-1
designator R?, comment Resistance: 316R  (hidden comment: CRCW0603316RFKEA)
316 Ohms ±1% 0.1W, 1/10W Chip Resistor 0603 (1608 Metric) Automotive AEC-Q200 Thick Film; Manufacturer: Vishay Dale; Value: 316R; Part Number: CRCW0603316RFKEA; Manufacturer 1: Vishay Dale; Manufacturer Part Number 1: CRCW0603316RFKEA; Supplier 1: Digikey; Supplier Part Number 1: 541-316HCT-ND
footprint R0603 (Chip Resistor; Body 1.6 x 0.9 mm (LxW typ))
pins: 1, 2
1 alternate drawing of the same symbol

## CMP-2000-03248-2
designator R?, comment Resistance: 33.2kR  (hidden comment: CRCW060333K2FKEA)
33.2 kOhms ±1% 0.1W, 1/10W Chip Resistor 0603 (1608 Metric) Automotive AEC-Q200 Thick Film; Manufacturer 1: Vishay Dale; Voltage Rating (DC): 75V; Temperature Coefficient: 100ppm/°C; Max Power Dissipation: 100mW; Value: 33.2kR; Package Quantity: 5000; Max Operating Temperature: 155°C; Height: 0.45mm; Radiation Hardening: No; Width: 0.85mm; Termination: SMD/SMT; Weight: 7.1E-05oz; Number of Terminations: 2; Case Code (Imperial): 0603; Military Standard: Not; Case/Package: 0603; Length: 1.55mm; Packaging: Tape and Reel; Number of Pins: 2; Lead Free: Lead Free; Composition: Thick Film; Case Code (Metric): 1608; Tolerance: 1%; Min Operating Temperature: -55°C; Voltage Rating: 75V; Depth: 0.85mm; Mount: Surface Mount; Contact Plating: Tin; Power Rating: 100mW; Features: Automotive AEC-Q200; Manufacturer Part Number 1: CRCW060333K2FKEA; Supplier 1: Digikey; Supplier Part Number 1: 541-33.2KHCT-ND
footprint R0603 (Chip Resistor; Body 1.6 x 0.9 mm (LxW typ))
pins: 1, 2

## CMP-2000-03549-2
designator R?, comment Resistance: 6.65kR  (hidden comment: CRCW06036K65FKEA)
6.65 kOhms ±1% 0.1W, 1/10W Chip Resistor 0603 (1608 Metric) Automotive AEC-Q200 Thick Film; Manufacturer 1: Vishay Dale; Voltage Rating: 75V; Max Power Dissipation: 100mW; Temperature Coefficient: 100ppm/°C; Value: 6.65kR; Height: 0.45mm; Number of Pins: 2; Termination: SMD/SMT; Max Operating Temperature: 155°C; Lead Free: Lead Free; Case/Package: 0603; Packaging: Tape and Reel; Tolerance: 1%; Number of Terminations: 2; Package Quantity: 10; Contact Plating: Tin; Length: 1.55mm; Features: Automotive AEC-Q200; Power Rating: 100mW; Composition: Thick Film; Case Code (Metric): 1608; Case Code (Imperial): 0603; Voltage Rating (DC): 75V; Min Operating Temperature: -55°C; Radiation Hardening: No; Depth: 0.85mm; Width: 0.033inch; Weight: 7.1E-05oz; Military Standard: Not; Manufacturer Part Number 1: CRCW06036K65FKEA; Supplier 1: Digikey; Supplier Part Number 1: 541-6.65KHCT-ND
footprint R0603 (Chip Resistor; Body 1.6 x 0.9 mm (LxW typ))
pins: 1, 2

## CMP-2000-03584-1
designator R?, comment value 7.5kR  (hidden comment: CRCW06037K50JNEA)
7.5 kOhms ±5% 0.1W, 1/10W Chip Resistor 0603 (1608 Metric) Automotive AEC-Q200 Thick Film; Manufacturer: Vishay Dale; Power: 100mW; Working Voltage: 75V; Temperature Coefficient (ppm/Cel): 200; Rated Temperature: 70°C; Package Height: 0.45mm; Package Length: 1.55mm; Package Width: 0.85mm; Part Number: CRCW06037K50JNEA; Supplier: Mouser; Supplier Part Number: 71-CRCW0603J-7.5K-E3; Manufacturer Part Number: CRCW06037K50JNEA; RoHS: Yes; Category: Chip SMD Resistors; Stock: 11666; Pricing: 1=0.1, 10=0.018, 50=0.018, 100=0.014, 1000=0.008, 10000=0.004 (USD); Mounting Technology: Surface Mount; Pins: 2; Case/Package: 0603; Terminal Finish: Nickel; Package Shape: Rectangular; Min Operating Temperature: -55°C; Max Operating Temperature: 155°C; Tolerance: 5%; JESD-609 Code: e3; Resistor Type: FIXED RESISTOR; Construction: Chip; Packaging: Tape and Reel; Technology: METAL GLAZE/THICK FILM; Termination: Wraparound; Reference Standard: AEC-Q200; Reach SVHC Compliant: Yes; RoHS Compliant: Yes; ComponentLink1URL: https://datasheet.ciiva.com:443/pdfs/VipMasterIC/IC/VISH/VISH-S-A0007266705/VISH-S-A0007266705-1.pdf?src-supplier=IHS+Markit; ComponentLink1Description: https://datasheet.ciiva.com:443/pdfs/VipMasterIC/IC/VISH/VISH-S-A0007266705/VISH-S-A0007266705-1.pdf?src-supplier=IHS+Markit; ComponentLink2URL: https://datasheet.ciiva.com/2462/dcrcwe3-2462124.pdf?src-supplier=Digikey; ComponentLink2Description: https://datasheet.ciiva.com/2462/dcrcwe3-2462124.pdf?src-supplier=Digikey; ComponentLink3URL: https://datasheet.ciiva.com/2462/dcrcwe3-2462125.pdf?src-supplier=Digikey; ComponentLink3Description: https://datasheet.ciiva.com/2462/dcrcwe3-2462125.pdf?src-supplier=Digikey; ComponentLink4URL: https://datasheet.ciiva.com/2462/dcrcwe3-2462126.pdf?src-supplier=Digikey; ComponentLink4Description: https://datasheet.ciiva.com/2462/dcrcwe3-2462126.pdf?src-supplier=Digikey; Manufacturer 1: Vishay Dale; Manufacturer Part Number 1: CRCW06037K50JNEA; Supplier 1: Digikey; Supplier Part Number 1: 541-7.5KGCT-ND
footprint R0603 (Chip Resistor; Body 1.6 x 0.9 mm (LxW typ))
pins: 1, 2
1 alternate drawing of the same symbol

## CMP-2000-04358-2
designator R?, comment Tolerance: 0.1%  Resistance: 12KΩ  (hidden comment: RT0603BRD0712KL)
12 kOhms ±0.1% 0.1W, 1/10W Chip Resistor 0603 (1608 Metric) Thin Film; Manufacturer: Yageo; Temperature Coefficient: 25 ppm/°C; Voltage Rating: 75V; Value: 12KR; Lead Free: Yes; Temperature: -55°C to +155°C; Device Class L3: Chip SMD Resistors; Manufacturer Part Number: RT0603BRD0712KL; Device Class L2: Resistors; ComponentLink2Description: Datasheet; Power Rating: 0.1W; ComponentLink2URL: http://www.yageo.com/documents/recent/PYu-RT_1-to-0.01_RoHS_L_9.pdf; Temperature Range Low: -55°C; Device Class L1: Passive Components; Height: 0.55mm; Mouser Description: Thin Film Resistors - SMD 12K ohm 0.1% 1/10W; Footprint Url: http://www.yageo.com/exep/pages/download/literatures/PYu-R_Mount_10.pdf; Digikey Description: RES SMD 12K OHM 0.1% 1/10W 0603; Octopart: https://octopart.com/rt0603brd0712kl-yageo-1438038; Temperature Range High: +155°C; RoHS: TRUE; Composition: Thin Film; Series: RT; Automotive: No; Package: RT0603; Category: Res; Ipc Land Pattern Name: RESC16080X45; Manufacturer 1: YAGEO; Manufacturer Part Number 1: RT0603BRD0712KL; Supplier 1: Digikey; Supplier Part Number 1: YAG1520CT-ND
footprint R0603 (Chip Resistor; Body 1.6 x 0.9 mm (LxW typ))
pins: 1, 2

## CMP-2000-05002-2
designator C?, comment Voltage Rating: 16 V  Capacitance: 100 nF  (hidden comment: CC0603KRX7R7BB104)
0.1 µF ±10% 16V Ceramic Capacitor X7R 0603 (1608 Metric); Manufacturer: YAGEO; Tolerance: 0.1; Value: 100nF; Temperature Coefficient: 15%; Package: CC0603-DA; ComponentLink2Description: Datasheet; Octopart: https://octopart.com/cc0603krx7r7bb104-yageo-192941; Temperature Range High: +125°C; Digikey Description: CAP CER 0.1UF 16V X7R 0603; Voltage: 16 V; Device Class L2: Capacitors; Height: 0.9mm; Temperature: -55°C to +125°C; Manufacturer Part Number: CC0603KRX7R7BB104; Device Class L1: Passive Components; Device Class L3: Ceramic Capacitors; ComponentLink2URL: http://www.yageo.com/documents/recent/UPY-GPHC_X7R_6.3V-to-50V_18.pdf; Footprint Url: http://www.yageo.com/exep/pages/download/literatures/UPY-C_GEN_24.pdf; RoHS: TRUE; Temperature Range Low: -55°C; Temperature Characteristic: X7R; Lead Free: Yes; Category: Cap; Mouser Description: Multilayer Ceramic Capacitor, CC Series, 0.1 - F, - 10%, X7R, 16 V, 0603 [1608 Metric]; Material: Ceramic; Automotive: No; Manufacturer 1: YAGEO; Manufacturer Part Number 1: CC0603KRX7R7BB104; Supplier 1: Digikey; Supplier Part Number 1: 311-1088-1-ND
footprint C0603 (Chip Capacitor, 2-Leads, Body 1.60x0.80mm)
pins: 1, 2

## CMP-2000-05397-3
designator C?, comment Dielectric: X5R  Voltage Rating: 25V  Capacitance: 47uF  (hidden comment: C3216X5R1E476M160AC)
47 µF ±20% 25V Ceramic Capacitor X5R 1206 (3216 Metric); Manufacturer 1: TDK Corporation; Value: 47uF; Weight: 0.000571oz; Length: 0.126inch; Case/Package: 1206; Dielectric Material: Ceramic; Min Operating Temperature: -55°C; Lead Free: Lead Free; Packaging: Tape and Reel; Package Quantity: 1; Mount: Surface Mount; Depth: 1.6mm; REACH SVHC: No SVHC; Termination: SMD/SMT; Case Code (Imperial): 1206; Series: C; Resistor Type: Ceramic; Voltage: 25V; Width: 0.063inch; Height: 1.6mm; Tolerance: 20%; Max Operating Temperature: 85°C; Voltage Rating (DC): 25V; RoHS Compliant: Yes; Thickness: 0.071inch; Case Code (Metric): 3216; Manufacturer Part Number 1: C3216X5R1E476M160AC; Supplier 1: Digikey; Supplier Part Number 1: 445-8047-1-ND
footprint C1206
pins: 1, 2

## CMP-2000-05485-1
designator P?, comment 1287-ST
0.250" (6.35mm) Quick Connect Male Solder Connector Non-Insulated; Manufacturer: Keystone; Manufacturer 1: Keystone Electronics; Angle: Straight; Material, Contact: Brass; Tab Fit: 0.25; Finish Plating: TinPlate; Mounting Hole Size: 0.052; Finish: Tin; Primary Type: QuickDisconnect; Standards: ULListed; Contact Plating: Tin; Datasheet Version: Rev. C, 08/2012; Package URL: http://www.keyelco.com/product-pdf.cfm?p=1859; Length, Overall: 0.552"; Terminal Style: PCBMale; Mounting: VERTICAL; Insulation Type: Non-Insulated; Gender: Male; Package Description: 2-Leads Quick-Fit Terminal, Pitch 5.08 mm; Type: Tab; Manufacturer URL: http://www.keyelco.com/; Terminal Type: Quick-Fit; Orientation: VERTICAL-Sturdi-Mount; Material: .032[.81]Brass; Diameter, Hole: 0.052in.; Mounting Technology: ThroughHole; Datasheet URL: http://www.keyelco.com/product-pdf.cfm?p=1859; Width, Overall: 0.312"; Termination: Solder; Package Reference: 1287-ST; Mount Angle: Straight; Manufacturer Part Number 1: 1287-ST; Supplier 1: Digikey; Supplier Part Number 1: 36-1287-ST-ND
footprint KSTN-1287-ST (FIT, 2-Leads, Pitch 5.08mm, Male)
pins: 1, 2

## CMP-2000-06094-2
designator C?, comment Voltage Rating: 10V  Capacitance: 1uF  (hidden comment: CL10B105KP8NNNC)
1 µF ±10% 10V Ceramic Capacitor X7R 0603 (1608 Metric); Manufacturer 1: Samsung Electro-Mechanics; Value: 1uF; Packaging: Tape and Reel; Depth: 0.8mm; Lead Free: Lead Free; Radiation Hardening: No; Length: 1.6mm; Package Quantity: 1; Mount: Surface Mount; Case/Package: 0603; Max Operating Temperature: 125°C; Case Code (Metric): 1608; Height: 0.8mm; Min Operating Temperature: -55°C; Dielectric: X7R; Contact Plating: Tin; Case Code (Imperial): 0603; Thickness: 0.035inch; Voltage Rating (DC): 10V; Tolerance: 10%; Width: 0.031inch; Manufacturer Part Number 1: CL10B105KP8NNNC; Supplier 1: Digikey; Supplier Part Number 1: 1276-1946-1-ND
footprint C0603 (Chip Capacitor, 2-Leads, Body 1.60x0.80mm)
pins: 1, 2

## CMP-2000-06110-2
designator C?, comment Capacitance: 10uF  Voltage: 50V  (hidden comment: CL32B106KBJNNNE)
10 µF ±10% 50V Ceramic Capacitor X7R 1210 (3225 Metric); Manufacturer 1: Samsung Electro-Mechanics; Value: 10uF; Material: Ceramic; Min Operating Temperature: -55°C; Depth: 2.5mm; Radiation Hardening: No; Packaging: Tape and Reel; Dielectric: X7R; Case Code (Metric): 3225; Height: 2.5mm; Thickness: 0.106inch; Voltage Rating (DC): 50V; Voltage Rating: 50V; Width: 0.098inch; Case Code (Imperial): 1210; Length: 3.2mm; Tolerance: 10%; Lead Free: Lead Free; Package Quantity: 1; Mount: Surface Mount; Case/Package: 1210; Max Operating Temperature: 125°C; Manufacturer Part Number 1: CL32B106KBJNNNE; Supplier 1: Digikey; Supplier Part Number 1: 1276-3387-1-ND
footprint C1210 (Ceramic Chip Capacitor; Body 3.2 x 2.5 mm (LxW typ))
pins: 1, 2

## CMP-2000-06337-3
designator C?, comment Capacitance: 22uF  Voltage Rating: 10V  (hidden comment: GRM188R61A226ME15D)
22 µF ±20% 10V Ceramic Capacitor X5R 0603 (1608 Metric); Manufacturer 1: Murata Electronics; Value: 22uF; Tolerance: 20%; Weight: 0.000222oz; Material: Ceramic; Depth: 0.8mm; Length: 1.6mm; Termination: SMD/SMT; Packaging: Tape and Reel; Width: 0.8mm; Case Code (Imperial): 0603; Mount: Surface Mount; Voltage Rating (DC): 10V; Case/Package: 0603; Thickness: 0.039inch; REACH SVHC: No SVHC; Dielectric: X5R; Height: 0.8mm; Package Quantity: 4000; Case Code (Metric): 1608; Min Operating Temperature: -55°C; Lead Free: Lead Free; Max Operating Temperature: 85°C; Manufacturer Part Number 1: GRM188R61A226ME15D; Supplier 1: Digikey; Supplier Part Number 1: 490-10476-1-ND
footprint C0603 (Chip Capacitor, 2-Leads, Body 1.60x0.80mm)
pins: 1, 2

## CMP-2000-06443-7
designator L?, comment Current Rating: 6A  Inductance: 3.3uH  (hidden comment: IHLP2525CZER3R3M01)
3.3 µH Shielded Molded Inductor 6 A 30mOhm Max Nonstandard; Manufacturer 1: Vishay Dale; Self Resonant Frequency: 5MHz; Saturation Current: 13.5A; Test Frequency: 100kHz; Core Material: Ferrite; Tolerance: 20%; DC Resistance (DCR): 30mR; Value: 3.3uH; Lead Free: Lead Free; Depth: 6.72mm; Min Operating Temperature: -55°C; Case Code (Metric): 6363; Contact Plating: Tin; Length: 6.47mm; Width: 6.47mm; Military Standard: Not; Number of Pins: 2525; Radiation Hardening: No; Termination: SMD/SMT; Rated Current-Max: 6A; RMS Current (Irms): 6A; Max Operating Temperature: 125°C; RoHS Compliant: Yes; Shielding: Shielded; Packaging: Tape and Reel; Height: 3mm; Max DC Current: 6A; Case Code (Imperial): 2525; Height - Seated (Max): 0.118inch; Series: IHLP-2525CZ-01; Package Quantity: 2000; Case/Package: 2525; Mount: Surface Mount; Inductance Tolerance: 20%; Manufacturer Part Number 1: IHLP2525CZER3R3M01; Supplier 1: Digikey; Supplier Part Number 1: 541-1009-1-ND
footprint FP-IHLP-2525CZ-FP_2_413x3-MFG
pins: 1, 2

## CMP-2000-06622-2
designator D?, comment LTST-C193KGKT-5A  Illumination Color: Green
LED GREEN CLEAR CHIP SMD Green 572nm LED Indication - Discrete 2V 0603 (1608 Metric); Manufacturer 1: Lite-On Inc.; Forward Current: 30mA; Power Dissipation: 75mW; Luminous Intensity: 28mcd; Lens Style: Diffused; Lens Color: Colorless; Forward Voltage: 2.3V; Test Current: 5mA; Viewing Angle: 130°; Reverse Voltage: 5V; Dominant Wavelength: 576.5nm; Number of Elements: 1; Number of Pins: 2; Case/Package: 0603; Width: 0.8mm; Radiation Hardening: No; Lead Free: Lead Free; Lens Transparency: Clear; Max Operating Temperature: 85°C; Color: Green; Packaging: Tape and Reel; Depth: 0.8mm; Length: 1.6mm; Mount: Surface Mount; Case Code (Imperial): 0603; Height: 0.35mm; Min Operating Temperature: -55°C; Package Quantity: 3000; Case Code (Metric): 1608; Power Rating: 75mW; Number of LEDs: 1; Manufacturer Part Number 1: LTST-C193KGKT-5A; Supplier 1: Digikey; Supplier Part Number 1: 160-1828-1-ND
footprint FP-LTST-C193KGKT-5A-MFG
pins: 1 C, 2 A

## CMP-2000-06623-2
designator D?, comment LTST-C193KRKT-5A  Illumination Color: Red
LED RED CLEAR CHIP SMD  Red 631nm LED Indication - Discrete 2V 0603 (1608 Metric); Manufacturer 1: Lite-On Inc.; Power Dissipation: 50mW; Lens Style: Diffused; Test Current: 5mA; Reverse Voltage: 5V; Number of Elements: 1; Viewing Angle: 130°; Luminous Intensity: 45mcd; Lens Color: Colorless; Forward Voltage: 2.3V; Case Code (Imperial): 0603; Lead Free: Lead Free; Radiation Hardening: No; Width: 0.8mm; Dominant Wavelength: 631nm; Number of Pins: 2; Packaging: Tape and Reel; Depth: 0.8mm; Height: 0.35mm; Mount: Surface Mount; Case Code (Metric): 1608; Forward Current: 5mA; Lens Transparency: Clear; Case/Package: 0603; Length: 1.6mm; Color: Red; Max Operating Temperature: 85°C; Number of LEDs: 1; Min Operating Temperature: -55°C; Package Quantity: 3000; Manufacturer Part Number 1: LTST-C193KRKT-5A; Supplier 1: Digikey; Supplier Part Number 1: 160-1830-1-ND
footprint FP-LTST-C193KRKT-5A-MFG
pins: 1 C, 2 A

## CMP-2000-07462-1
designator U?, comment LIS2HH12TR
Accelerometer X, Y, Z Axis ±2g, 4g, 8g 5Hz ~ 400Hz 12-LGA (2x2); Manufacturer: STMicroelectronics; Case\/Package: LGA; Package Description: 12-Pin Land Grid Array Package, Body 2 x 2 mm, Pitch 0.5 mm; Bandwidth: 400Hz; Manufacturer URL: http://www.st.com/; Lead Free: LeadFree; RoHSCompliant: true; Min Operating Temperature: -40degC; Mounting Technology: SurfaceMount; Packaging: TapeandReel; Max Operating Temperature: 85degC; Mount: SurfaceMount; Number of Pins: 12; Datasheet URL: http://www.st.com/content/ccc/resource/technical/document/datasheet/c9/16/f2/79/ca/31/47/89/DM00096789.pdf/files/DM00096789.pdf/jcr:content/translations/en.DM00096789.pdf; Contact Plating: Gold; Package Reference: LGA-12; Datasheet Version: Rev. 5, 12/2015; Manufacturer 1: STMicroelectronics; Manufacturer Part Number 1: LIS2HH12TR; Supplier 1: Digikey; Supplier Part Number 1: 497-15069-1-ND
footprint STM-LGA-12 (LGA, 12-Leads, Body 2x2mm, Pitch 0.5mm)
pins: 1 SCL/SPC (in), 2 CS (in) "SPI enable I2C/SPI mode selection (1: SPI idle mode / I2C communication enabled; 0: SPI communication mode / I2C disabled)", 3 SDO/SA0, 4 SDA/SDI/SDO (io), 5 RES "Connect to GND", 6 GND (power) "0 V supply", 7 GND (power) "0 V supply", 8 GND (power) "0 V supply", 9 VDD (power) "Power supply", 10 VDD_IO (power) "Power supply for I/O pins", 11 INT2 (out) "Interrupt pin 2", 12 INT1 (out) "Interrupt pin 1"